# EAGLE library part MKE04Z8VTG4 (library bt_arm)
Kinetis KE04 ARM Cortex M0+ Datasheet.pdf <http://cache.freescale.com/files/microcontrollers/doc/data_sheet/MKE04P24M48SF0.pdf> The MKE04Z8VTG4 is a 32-bit ARM Cortex M0+ that runs up to 48MHz on 2.7-5.5V with 8KB Flash, 1KB RAM, 4-24MHz crystal/ceramic resonator, 32.768kHz crystal resonator, and other clock options. Other features include: Power management module (PMC) with three power modes: Run, Wait, Stop Low-voltage detection (LVD) with reset or interrupt, selectable trip points Watchdog with independent clock source (WDOG) Programmable cyclic redundancy check module (CRC) Serial wire debug interface (SWD) Aliased SRAM bitband region (BIT-BAND) Bit manipulation engine (BME) 80-bit unique identification (ID) number per chip Up to 22 general-purpose input/output (GPIO) Two 8-bit keyboard interrupt modules (KBI) External interrupt (IRQ) One 12-channel 12-bit SAR ADC, operation in Stop mode, optional hardware trigger (ADC) Two analog comparators containing a 6-bit DAC and programmable reference input (ACMP) One 6-channel FlexTimer/PWM (FTM) One 2-channel FlexTimer/PWM (FTM) One 2-channel periodic interrupt timer (PIT) One pulse width timer (PWT) One real-time clock (RTC) One SPI module (SPI) One UART module (UART) One I2C module (I2C)
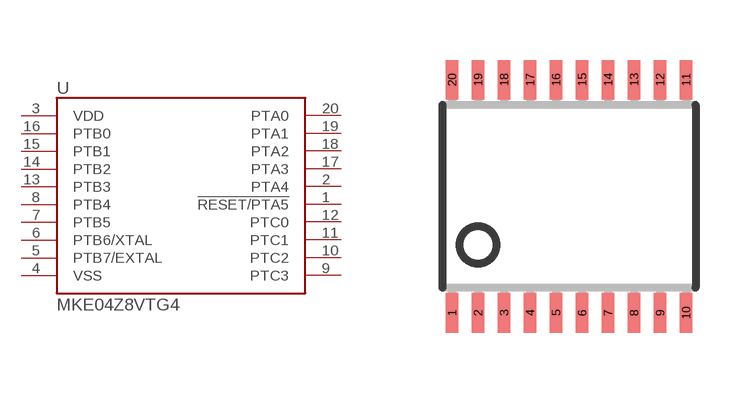
[diagram p4: symbol with the pads of TSSOP20; footprint TSSOP20]

Designator prefix U

## MKE04Z8VTG4  [TSSOP20]
1  !RESET/PTA5
2  PTA4
3  VDD
4  VSS
5  PTB7/EXTAL
6  PTB6/XTAL
7  PTB5
8  PTB4
9  PTC3
10  PTC2
11  PTC1
12  PTC0
13  PTB3
14  PTB2
15  PTB1
16  PTB0
17  PTA3
18  PTA2
19  PTA1
20  PTA0

## Footprint TSSOP20 (pad centres in mm)
TSSOP20 0.65mm pitch
smd 0.305 x 0.991: 1 -2.925,-2.918; 2 -2.275,-2.918; 3 -1.625,-2.918; 4 -0.975,-2.918; 5 -0.325,-2.918; 6 0.325,-2.918; 7 0.975,-2.918; 8 1.625,-2.918; 9 2.275,-2.918; 10 2.925,-2.918; 11 2.925,2.918; 12 2.275,2.918; 13 1.625,2.918; 14 0.975,2.918; 15 0.325,2.918; 16 -0.325,2.918; 17 -0.975,2.918; 18 -1.625,2.918; 19 -2.275,2.918; 20 -2.925,2.918